# Altium schematic symbol library UHF-schlib.SchLib: 6 symbols
Pins are listed as number, name and electrical type; pins without a type are passive.

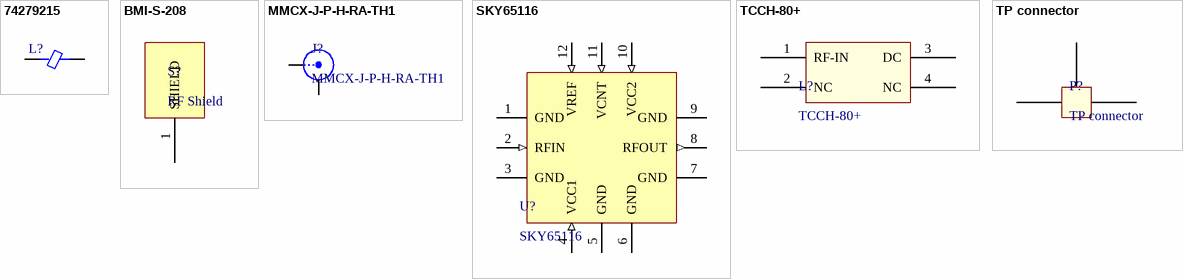
[diagram p0: symbols 74279215 to TP connector]

## 74279215
designator L?, comment Ferrite Bead  (value not drawn)
DCR: 30,; Voltage: =Voltage
footprint CAPC3216X13N (Chip Capacitor, 2-Leads, Body 3.20x1.60mm, IPC Medium Density)
pins: 1, 2

## BMI-S-208
designator S?, comment RF Shield
PartNumber: BMI-S-208
footprint BMI-S-208
pins: 1 SHIELD

## MMCX-J-P-H-RA-TH1
designator J?
PartNumber: MMCX-J-P-H-RA-TH1
footprint MMCX-J-P-H-RA-TH1
pins: 1, 2

## SKY65116
designator U?
390 to 500 MHz Linear Power Amplifier; PartNumber: SKY65116-21; ComponentLink1URL: http://www.skyworksinc.com/uploads/documents/SKY65116_200510I.pdf; ComponentLink1Description: Datasheet
footprint SKY65116
pins: 1 GND, 2 RFIN (in), 3 GND, 4 VCC1 (in), 5 GND, 6 GND, 7 GND, 8 RFOUT (out), 9 GND, 10 VCC2 (in), 11 VCNT (in), 12 VREF (in)

## TCCH-80+
designator L?
RF Choke; ComponentLink1URL: https://www.minicircuits.com/pdfs/TCCH-80+.pdf; ComponentLink1Description: DataSheet; PartNumber: TCCH-80+
footprint DFN279P381X381-4N (DFN, 4-Leads, Body 3.81x3.81mm, Pitch 2.79mm, IPC Medium Density)
pins: 1 RF-IN "PWMC0_PWMH0/TIOA0/A17/BA1/I2SC0_MCK", 2 NC "PWMC0_PWMH0/TIOA0/A17/BA1/I2SC0_MCK", 3 DC "PWMC0_PWMH0/TIOA0/A17/BA1/I2SC0_MCK", 4 NC "PWMC0_PWMH0/TIOA0/A17/BA1/I2SC0_MCK"

## TP connector
designator P?
footprint TP connector
pins: 1 IN1 "PWMC0_PWMH0/TIOA0/A17/BA1/I2SC0_MCK", 2 IN3 "PWMC0_PWMH0/TIOA0/A17/BA1/I2SC0_MCK", 3 IN2 "PWMC0_PWMH0/TIOA0/A17/BA1/I2SC0_MCK"